# EAGLE library part CP2130-GM (library shit)
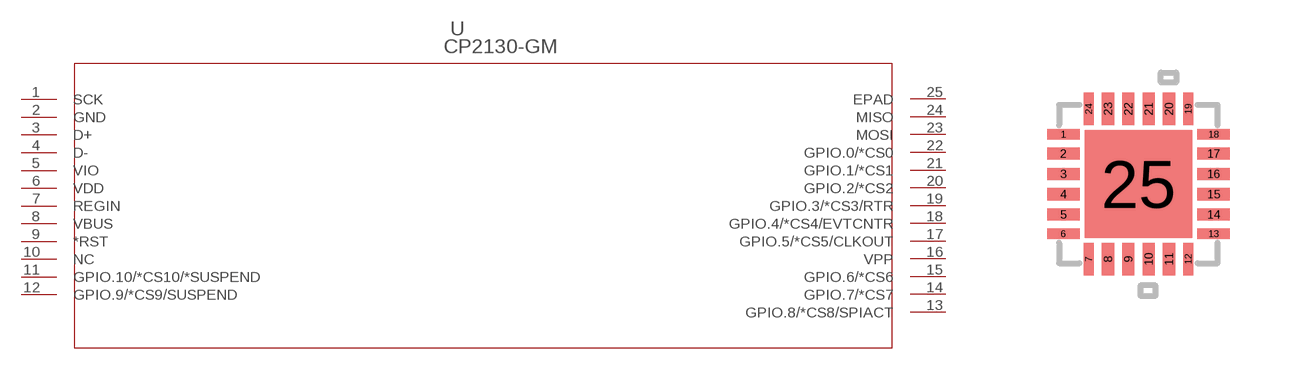
[diagram p5: symbol with the pads of QFN24_4X4; footprint QFN24_4X4]

Designator prefix U

## CP2130-GM (MANUFACTURER_PART_NUMBER: cp2130-gm; VENDOR: Silicon Labs)  [QFN24_4X4]
1  SCK  out
2  GND  pwr
3  D+
4  D-
5  VIO
6  VDD  pwr
7  REGIN  in
8  VBUS  in
9  *RST
10  NC  nc
11  GPIO.10/*CS10/*SUSPEND
12  GPIO.9/*CS9/SUSPEND
13  GPIO.8/*CS8/SPIACT
14  GPIO.7/*CS7
15  GPIO.6/*CS6
16  VPP  pwr
17  GPIO.5/*CS5/CLKOUT
18  GPIO.4/*CS4/EVTCNTR
19  GPIO.3/*CS3/RTR
20  GPIO.2/*CS2
21  GPIO.1/*CS1
22  GPIO.0/*CS0
23  MOSI  out
24  MISO  in
25  EPAD  pas

## Footprint QFN24_4X4 (pad centres in mm)
smd 0.813 x 0.254: 1 -1.88,1.245; 6 -1.88,-1.245; 13 1.88,-1.245; 18 1.88,1.245
smd 0.813 x 0.305: 2 -1.88,0.762; 3 -1.88,0.254; 4 -1.88,-0.254; 5 -1.88,-0.762; 14 1.88,-0.762; 15 1.88,-0.254; 16 1.88,0.254; 17 1.88,0.762
smd 0.254 x 0.813: 7 -1.245,-1.88; 12 1.245,-1.88; 19 1.245,1.88; 24 -1.245,1.88
smd 0.305 x 0.813: 8 -0.762,-1.88; 9 -0.254,-1.88; 10 0.254,-1.88; 11 0.762,-1.88; 20 0.762,1.88; 21 0.254,1.88; 22 -0.254,1.88; 23 -0.762,1.88
smd 2.692 x 2.692: 25 0,0